# EAGLE library part MIC2876 (library MIC2876_SON50P200X200X60-9N)
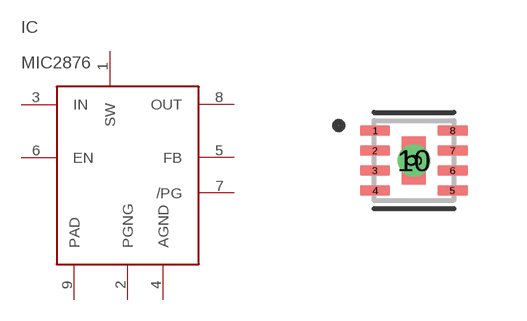
[diagram p0: symbol with the pads of SON50P200X200X60-9N; footprint SON50P200X200X60-9N]

Designator prefix IC

## MIC2876  [SON50P200X200X60-9N]
1  SW
2  PGNG
3  IN
4  AGND
5  FB
6  EN
7  /PG
8  OUT
9  PAD

## Footprint SON50P200X200X60-9N (pad centres in mm)
smd 0.76 x 0.27: 1 -0.97,0.75; 2 -0.97,0.25; 3 -0.97,-0.25; 4 -0.97,-0.75; 5 0.97,-0.75; 6 0.97,-0.25; 7 0.97,0.25; 8 0.97,0.75
smd 0.6 x 1.2: 9 0,0
drill 0.3 pad 0.4: 10 0,0